# Altium schematic symbol library OPA4192IPWR.SchLib: 1 symbol
Pins are listed as number, name and electrical type; pins without a type are passive.

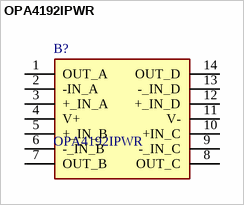
[diagram p0: symbol OPA4192IPWR]

## OPA4192IPWR
designator B?
Low-Noise, Low Quiescent Current, 36V RRI/O Precision Op Amps, E-Trim Series; Manufacturer_Name: Texas Instruments; Geometry.Height: 1.2mm; Mouser Part Number: 595-OPA4192IPWR; Mouser Price/Stock: https://www.mouser.co.uk/ProductDetail/Texas-Instruments/OPA4192IPWR?qs=VymPLiRQZIQME3r0jgSK9g%3D%3D; Manufacturer_Part_Number: OPA4192IPWR; Datasheet Link: http://www.ti.com/lit/gpn/OPA4192
footprint SOP65P640X120-14N
pins: 1 OUT_A, 2 -IN_A, 3 +_IN_A, 4 V+, 5 +_IN_B, 6 -_IN_B, 7 OUT_B, 8 OUT_C, 9 -_IN_C, 10 +IN_C, 11 V-, 12 +_IN_D, 13 -_IN_D, 14 OUT_D